# Altium footprint library Switch Matrix PCB.PcbLib: 13 footprints
Each footprint in its own frame and in the unit in brackets; x right, y up, seen from the top. Pads: shape width x height; smd on the part's side, far side on the other; paste and mask are expansions set on the pad; w line width, h text height; cw(c..) or ccw(c..) is an arc to the next point about the centre after c.
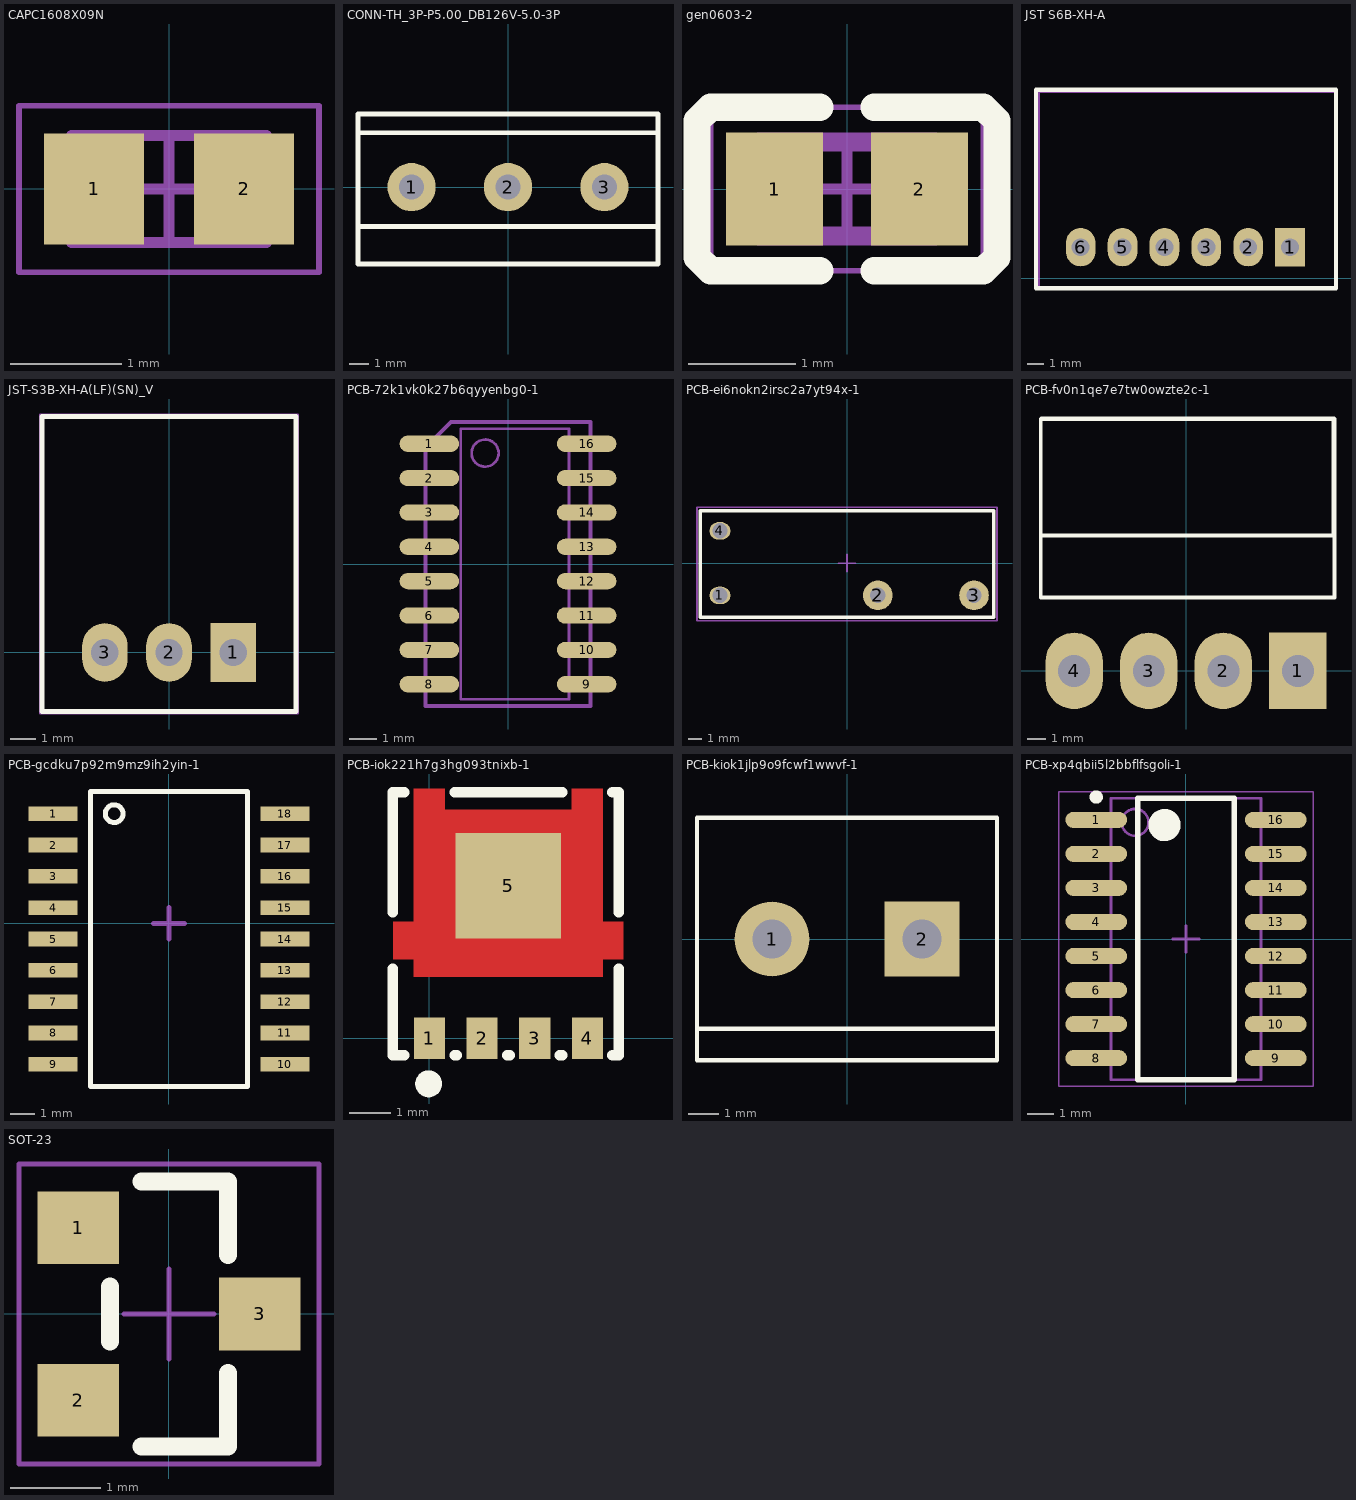
[diagram p0: the footprints below, top view; thin cyan lines are the x and y axes]

## CAPC1608X09N [mm]
pads (2):
  rect 0.9x1 smd: 1(-0.675,0) 2(0.675,0)
Mechanical 13:
  lines w0.1: -0.875,-0.48 0.875,-0.48 0.875,0.48 -0.875,0.48 -0.875,-0.48
Mechanical 15:
  lines w0.05: -1.35,-0.75 1.35,-0.75 1.35,0.75 -1.35,0.75 -1.35,-0.75
  lines w0.1: -0.48,0 0.48,0 ; 0,-0.48 0,0.48
3D body "06035c103kat2a.stp": height 0.45, standoff 0, extent -0.8,-0.4 0.8,0.4

## CONN-TH_3P-P5.00_DB126V-5.0-3P [mm]
pads (3):
  round 2.5 hole 1.3: 1(-5,0) 2(0,0) 3(5,0)
Top Overlay:
  lines w0.254: -7.78,-2.036 7.78,-2.036 ; -7.78,2.816 7.78,2.816 ; -7.78,-4 -7.78,3.8 7.78,3.8 7.78,-4 -7.78,-4
3D body "TerminalBlock_Phoenix_MKDS-1,5-3-5.08_1x03_P5.08mm_Horizontal.step": height 13.9, standoff -3.5, extent -7.54,-4.6 7.7,5.2

## gen0603-2 [mm]
pads (2):
  rect 0.9x1.05 smd: 1(-0.675,0) 2(0.675,0)
Top Overlay:
  lines w0.254: -0.254,-0.762 -1.27,-0.762 -1.397,-0.635 -1.397,0.635 -1.27,0.762 -0.254,0.762 ; 0.254,-0.762 1.27,-0.762 1.397,-0.635 1.397,0.635 1.27,0.762 1.143,0.762 0.254,0.762
Mechanical 6:
  text ".designator" at -0.9,-0.3 h0.6
Mechanical 8:
  lines w0.1: -0.85,-0.4 0.85,-0.4 0.85,0.4 -0.85,0.4 -0.85,-0.4
Mechanical 13:
  lines w0.1: -0.825,-0.475 0.825,-0.475 0.825,0.475 -0.825,0.475 -0.825,-0.475
Mechanical 15:
  lines w0.05: -1.27,-0.762 1.27,-0.762 1.27,0.762 -1.27,0.762 -1.27,-0.762
  lines w0.1: -0.475,0 0.475,0 ; 0,-0.475 0,0.475
3D body "User Library-RES_1609-0603.step": height 0.59, standoff 0.03, extent -0.85,-0.4 0.85,0.4

## JST S6B-XH-A [mil]
pads (6):
  rect 70x90 hole 42: 1(-332.87,73)
  oval 70x90 hole 42: 2(-431.3,73) 3(-529.72,73) 4(-628.15,73) 5(-726.57,73) 6(-825,73)
Top Overlay:
  lines w10: -930,-23.38 -930,443 -225,443 -225,-23.38 -930,-23.38
Mechanical 8:
  lines w5: -923.43,-22 -923.43,438 -225,438 -225,-22 -923.43,-22
3D body "S6B-XH-A.STEP": height 242.13, standoff -133.86, extent -920,-17 -234.96,435.76

## JST-S3B-XH-A(LF)(SN)_V [mil]
pads (3):
  rect 70x90 hole 42: 1(98.43,0)
  oval 70x90 hole 42: 2(0,0) 3(-98.43,0)
Top Overlay:
  lines w7.87: 194.76,-90.55 194.88,-90.55 ; 194.88,-90.55 -194.88,-90.55 -194.88,362.2 194.88,362.2 194.88,-90.55
Mechanical 13:
  lines w3.94: -194.88,-90.55 194.88,-90.55 194.88,362.2 -194.88,362.2 -194.88,-90.55
Mechanical 15:
  lines w1.97: -198.82,-94.49 198.82,-94.49 198.82,366.14 -198.82,366.14 -198.82,-94.49
  lines w3.94: -19.68,0 19.68,0 ; 0,-19.68 0,19.68
3D body "S3B-XH-A.STEP": height 242.13, standoff -133.86, extent -194.89,-90.55 194.88,362.2

## PCB-72k1vk0k27b6qyyenbg0-1 [mm]
pads (16):
  oval 2.2x0.6 smd: 1(-2.908,4.445) 2(-2.908,3.175) 3(-2.908,1.905) 4(-2.908,0.635) 5(-2.908,-0.635) 6(-2.908,-1.905) 7(-2.908,-3.175) 8(-2.908,-4.445) 9(2.908,-4.445) 10(2.908,-3.175) 11(2.908,-1.905) 12(2.908,-0.635) 13(2.908,0.635) 14(2.908,1.905) 15(2.908,3.175) 16(2.908,4.445)
Mechanical 6:
  text "74HC595" at 0.635,-3.683 h2
Mechanical 11:
  text "1.45" at 0.635,-1.651 h2
Mechanical 13:
  circle w0.1: c-0.846,4.1 r0.5
  lines w0.1: -1.746,-5 -1.746,5 2.254,5 2.254,-5 -1.746,-5
Mechanical 15:
  lines w0.15: -3.048,-5.25 3.048,-5.25 3.048,5.25 -2.103,5.25 -3.048,4.305 -3.048,-5.25
3D body "SOIC_16.step": height 1.4, standoff 0, extent -3,-4.95 3,4.95

## PCB-ei6nokn2irsc2a7yt94x-1 [mil]
pads (4):
  oval 60x50 / inner round 85 / far side round 85 hole 44: 1(-364.17,-92.52) 4(-364.17,92.52)
  round 85 hole 44: 2(88.58,-92.52) 3(364.17,-92.52)
Top Overlay:
  lines w10: -420,-155 -420,150 420,150 420,-155 -420,-155
Mechanical 15:
  lines w5: -25,0 25,0 ; 0,-25 0,25 ; -430,-165 -430,160 430,160 430,-165 -430,-165
3D body "G5NB_1A.step": height 602.36, standoff -133.86, extent -408.54,-143.47 398.54,140

## PCB-fv0n1qe7e7tw0owzte2c-1 [mil]
pads (4):
  rect 120x160 hole 66.9: 1(233.95,0)
  oval 120x160 hole 66.9: 2(78.05,0) 3(-77.95,0) 4(-233.95,0)
Top Overlay:
  lines w7.87: -304,283.54 -304,525.12 ; -304,153.54 310.72,153.54 310.72,283.46 -304,283.46 -304,153.54
  lines w10: -302.54,527.56 4.54,527.56 ; 2.46,527.56 309.54,527.56 309.54,283.46
3D body: height 10, standoff 0, extent -307,-84.85 310.72,524.21

## PCB-gcdku7p92m9mz9ih2yin-1 [mm]
pads (18):
  rect 2x0.6 smd: 1(-4.7,4.445) 2(-4.7,3.175) 3(-4.7,1.905) 4(-4.7,0.635) 5(-4.7,-0.635) 6(-4.7,-1.905) 7(-4.7,-3.175) 8(-4.7,-4.445) 9(-4.7,-5.715) 10(4.7,-5.715) 11(4.7,-4.445) 12(4.7,-3.175) 13(4.7,-1.905) 14(4.7,-0.635) 15(4.7,0.635) 16(4.7,1.905) 17(4.7,3.175) 18(4.7,4.445)
Top Overlay:
  circle w0.203: c-2.222,4.445 r0.359
  lines w0.203: -3.175,-6.604 -3.175,4.445 -3.175,5.334 3.175,5.334 3.175,-6.604 -3.175,-6.604
Mechanical 6:
  text ".Comment" at -0.508,4.572 h1.52
Mechanical 15:
  lines w0.203: -0.635,0 0.635,0 ; 0,-0.635 0,0.635
3D body "SOIC-18-300.STEP": height 2.6, standoff 0, extent -5.276,-6.518 5.324,5.232

## PCB-iok221h7g3hg093tnixb-1 [mm]
pads (5):
  rect 0.75x1 smd: 1(0,0) 2(1.27,0) 3(2.54,0) 4(3.81,0)
  rect 2.54x2.54 smd: 5(1.905,3.683)
Top Layer:
  region: -0.375,1.485 -0.375,1.91 -0.87,1.91 -0.87,2.815 -0.375,2.815 -0.375,6.015 0.375,6.015 0.375,5.515 3.435,5.515 3.435,6.015 4.185,6.015 4.185,2.815 4.68,2.815 4.68,1.91 4.185,1.91 4.185,1.485
Top Overlay:
  lines w0.254: -0.889,1.68 -0.889,-0.411 -0.606,-0.411 ; -0.889,3.045 -0.889,5.939 -0.606,5.939 ; 0.606,-0.411 0.664,-0.411 ; 0.606,5.939 3.204,5.939 ; 1.876,-0.411 1.934,-0.411 ; 3.146,-0.411 3.204,-0.411 ; 4.416,-0.411 4.572,-0.411 4.572,1.679 ; 4.416,5.939 4.572,5.939 4.572,3.046
  lines w0.399: 0.105,-1.098 cw(c-0.019,-1.096) 0.105,-1.095
Top Paste:
  region: -0.375,1.485 -0.375,1.91 -0.87,1.91 -0.87,2.815 -0.375,2.815 -0.375,6.015 0.375,6.015 0.375,5.515 3.435,5.515 3.435,6.015 4.185,6.015 4.185,2.815 4.68,2.815 4.68,1.91 4.185,1.91 4.185,1.485
Top Solder:
  region: -0.375,1.485 -0.375,1.91 -0.87,1.91 -0.87,2.815 -0.375,2.815 -0.375,6.015 0.375,6.015 0.375,5.515 3.435,5.515 3.435,6.015 4.185,6.015 4.185,2.815 4.68,2.815 4.68,1.91 4.185,1.91 4.185,1.485
Mechanical 15:
  lines w0.003: 1.816,2.812 1.867,2.863

## PCB-kiok1jlp9o9fcwf1wwvf-1 [mm]
pads (2):
  round 2.5 hole 1.3: 1(-2.5,0)
  rect 2.5x2.5 hole 1.3: 2(2.5,0)
Top Overlay:
  lines w0.15: -5,-3 5,-3 ; -5,-4.05 5,-4.05 5,4.05 -5,4.05 -5,-4.05
3D body "1729018.stp": height 10, standoff -3.5, extent -5.57,-4.075 5,4.075

## PCB-xp4qbii5l2bbflfsgoli-1 [mm]
pads (16):
  oval 2.3x0.6 smd: 1(-3.35,4.445) 2(-3.35,3.175) 3(-3.35,1.905) 4(-3.35,0.635) 5(-3.35,-0.635) 6(-3.35,-1.905) 7(-3.35,-3.175) 8(-3.35,-4.445) 9(3.35,-4.445) 10(3.35,-3.175) 11(3.35,-1.905) 12(3.35,-0.635) 13(3.35,0.635) 14(3.35,1.905) 15(3.35,3.175) 16(3.35,4.445)
Top Overlay:
  circle w0.25: c-3.35,5.295 r0.125
  circle w0.6: c-0.8,4.25 r0.3
  lines w0.2: -1.8,-5.25 -1.8,5.25 1.8,5.25 1.8,-5.25 -1.8,-5.25
Mechanical 13:
  circle w0.1: c-1.9,4.35 r0.5
  lines w0.1: -2.8,-5.25 -2.8,5.25 2.8,5.25 2.8,-5.25 -2.8,-5.25
Mechanical 15:
  lines w0.05: -4.75,-5.5 -4.75,5.5 4.75,5.5 4.75,-5.5 -4.75,-5.5
  lines w0.1: -0.5,0 0.5,0 ; 0,-0.5 0,0.5
3D body: height 2, standoff 0.05, extent -2.8,-5.25 2.8,5.25

## SOT-23 [mm]
pads (3):
  rect 0.9x0.8 smd: 1(-1,0.95) 2(-1,-0.95) 3(1,0)
Top Overlay:
  lines w0.2: -0.65,-0.3 -0.65,0.3 ; -0.3,-1.46 0.65,-1.46 0.65,-0.65 ; -0.3,1.46 0.65,1.46 0.65,0.65
Mechanical 15:
  lines w0.05: -0.5,0 0.5,0 ; 0,-0.5 0,0.5 ; -1.651,-1.651 -1.651,1.651 1.651,1.651 1.651,-1.651 -1.651,-1.651
3D body "User Library-SOT-23-4.step": height 1.07, standoff 0, extent -1.191,-1.475 1.191,1.475